# EAGLE library part 74*682 (library 74ttl-din)
8-bit MAGNITUDE/IDENTITY COMPARATOR, totem pole
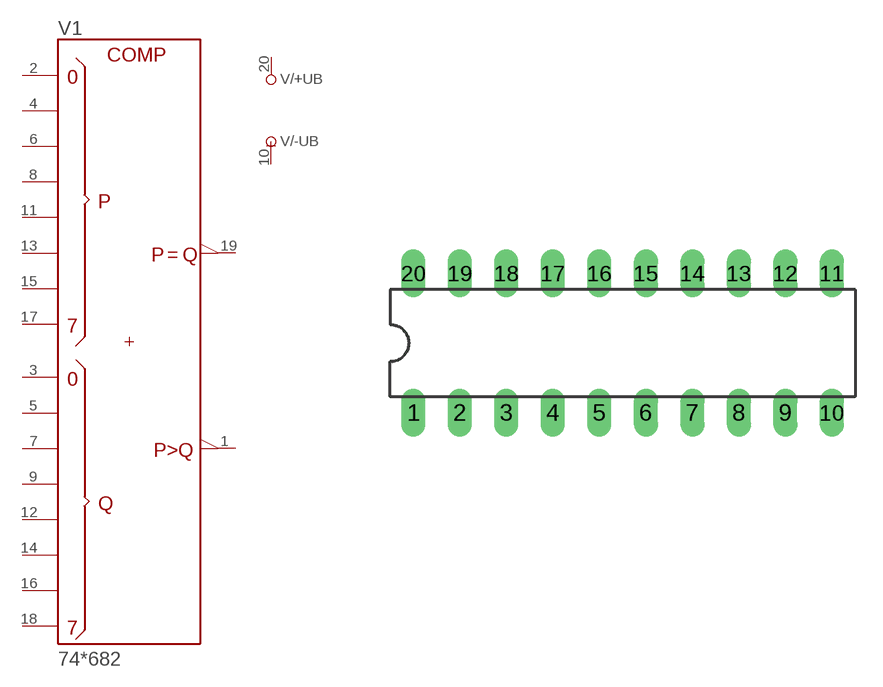
[diagram p132: symbol with the pads of DIL20; footprint DIL20]

Designator prefix V; gates /+UB=+UB /-UB=-UB 1=682

## 74682N  [DIL20]
1  1:!P>Q  out
2  1:P0  in
3  1:Q0  in
4  1:P1  in
5  1:Q1  in
6  1:P2  in
7  1:Q2  in
8  1:P3  in
9  1:Q3  in
10  /-UB:-UB  pwr
11  1:P4  in
12  1:Q4  in
13  1:P5  in
14  1:Q5  in
15  1:P6  in
16  1:Q6  in
17  1:P7  in
18  1:Q7  in
19  1:!P=Q  out
20  /+UB:+UB  pwr

## Footprint DIL20 (pad centres in mm)
Dual In Line Package
drill 0.813 long: 1 -11.43,-3.81; 2 -8.89,-3.81; 3 -6.35,-3.81; 4 -3.81,-3.81; 5 -1.27,-3.81; 6 1.27,-3.81; 7 3.81,-3.81; 8 6.35,-3.81; 9 8.89,-3.81; 10 11.43,-3.81; 11 11.43,3.81; 12 8.89,3.81; 13 6.35,3.81; 14 3.81,3.81; 15 1.27,3.81; 16 -1.27,3.81; 17 -3.81,3.81; 18 -6.35,3.81; 19 -8.89,3.81; 20 -11.43,3.81